# Altium footprint library C0805 - MURATA.PcbLib: 1 footprints
Each footprint in its own frame and in the unit in brackets; x right, y up, seen from the top. Pads: shape width x height; smd on the part's side, far side on the other; paste and mask are expansions set on the pad; w line width, h text height; cw(c..) or ccw(c..) is an arc to the next point about the centre after c.
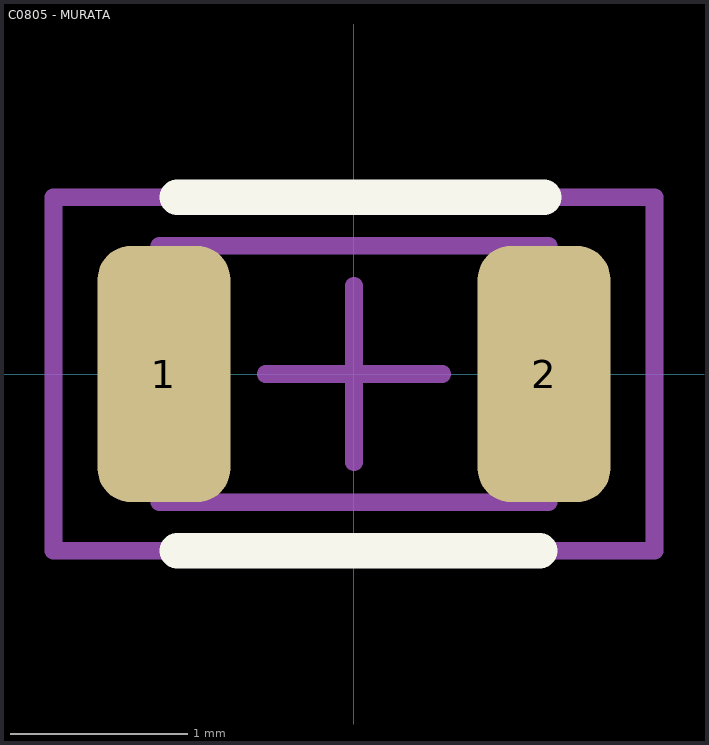
[diagram p0: the footprint, top view; thin cyan lines are the x and y axes]

## C0805 - MURATA [mm] "Chip Capacitor, 2-Leads, Body 2,00x1,25mm, IPC Medium Density"
height 1.45
pads (2):
  rrect50% 0.75x1.45 smd: 1(-1.075,0) 2(1.075,0)
Top Overlay:
  lines w0.2: -1,-1 1.05,-1 ; -1,1 1.075,1
Mechanical 13:
  lines w0.1: -1.1,-0.725 -1.1,0.725 1.1,0.725 1.1,-0.725 -1.1,-0.725
Mechanical 15:
  lines w0.1: -0.5,0 0.5,0 ; 0,-0.5 0,0.5 ; -1.7,-1 1.7,-1 1.7,1 -1.7,1 -1.7,-1
Top Designator:
  text ".Designator" at -1.25,-0.083 h0.25
3D body "CAPC2012X14N.step": height 1.45, standoff 0, extent -1.1,-0.725 1.1,0.725